# EAGLE library part P227EE2B18A (library switch-e-switch)
SWITCH DPDT PWR W/BRACKET
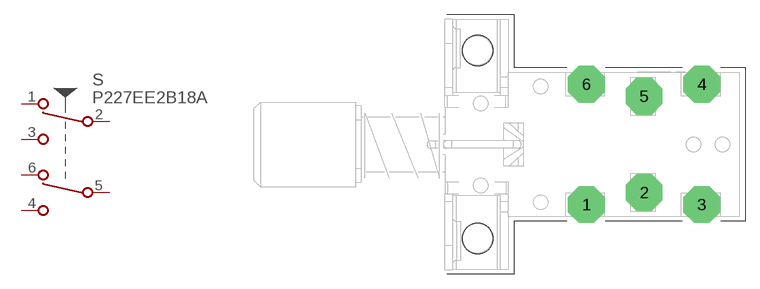
[diagram p12: symbol with the pads of P227EE2B18A; footprint P227EE2B18A]

Designator prefix S

## P227EE2B18A  [P227EE2B18A]
1  A-NC  pas
2  A-COM  pas
3  A-NO  pas
4  B-NO  pas
5  B-COM  pas
6  B-NC  pas

## Footprint P227EE2B18A (pad centres in mm)
DPDT PWR W/BRACKET
drill 1.422 pad 3.81 octagon: 1 0,-6.25; 2 6,-5; 3 12,-6.25; 4 12,6.25; 5 6,5; 6 0,6.25
hole 3.175 at -11.3,9.75
hole 3.175 at -11.3,-9.75